# EAGLE library part 6180XX29321_61803729321 (library Wurth_Connectors_WR-DSUB)
WR-DSUB Female PCB Connector w. Hex Screw Kind Properties Quality Class：3 as per CECC 75 301-802 Gender:Female Type:Straight Insulator Material:PBT Insulator Flammability Rating:UL94 V-0 Color:White Contact Material:Copper Alloy Contact Plating:Gold Contact Type:Stamped Shielding Material:Steel Shielding Plating:Tin General Information Operating Temperature:-55 up to +105 °C Compliance：RoHS Electrical Properties IR 1：3 A Working Voltage:125 V (AC) Withstanding Voltage:1000 V (AC) Contact Resistance:30 mΩ <https://www.we-online.com/catalog/media/o33090v209%20Family_WR-DSUB_6180xx29321.jpg> Details see: https://www.we-online.com/catalog/en/DSUB_FEMALE_PCB_CONNECTOR_W_HEX_SCREW_6180XX29321/ Updated by Yingchun, Shan 2020-01-13 2020 (C) Würth Elektronik
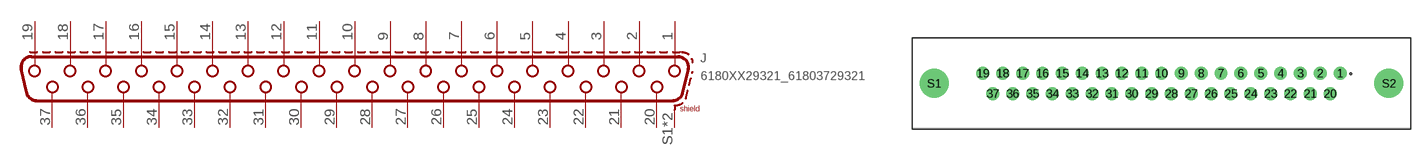
[diagram p42: symbol with the pads of 61803729321; footprint 61803729321]

Designator prefix J

## 6180XX29321_61803729321 (DATASHEET-URL: https://www.we-online.com/redexpert/spec/61803729321?ae; GENDER: Female; PART-NUMBER: 61803729321; PINS: 37; TYPE: Straight; VALUE: 61803729321; WE-NUMBER: 61803729321; WORKING-VOLTAGE: 125 V(AC))  [61803729321]
1  1
2  2
3  3
4  4
5  5
6  6
7  7
8  8
9  9
10  10
11  11
12  12
13  13
14  14
15  15
16  16
17  17
18  18
19  19
20  20
21  21
22  22
23  23
24  24
25  25
26  26
27  27
28  28
29  29
30  30
31  31
32  32
33  33
34  34
35  35
36  36
37  37
S1  SHIELD
S2  SHIELD

## Footprint 61803729321 (pad centres in mm)
WR-DSUB Female PCB Connector w. Hex Screw, 37 Pins
drill 1.2: 1 24.93,1.42; 2 22.16,1.42; 3 19.39,1.42; 4 16.62,1.42; 5 13.85,1.42; 6 11.08,1.42; 7 8.31,1.42; 8 5.54,1.42; 9 2.77,1.42; 10 0,1.42; 11 -2.77,1.42; 12 -5.54,1.42; 13 -8.31,1.42; 14 -11.08,1.42; 15 -13.85,1.42; 16 -16.62,1.42; 17 -19.39,1.42; 18 -22.16,1.42; 19 -24.93,1.42; 20 23.545,-1.42; 21 20.775,-1.42; 22 18.005,-1.42; 23 15.235,-1.42; 24 12.465,-1.42; 25 9.695,-1.42; 26 6.925,-1.42; 27 4.155,-1.42; 28 1.385,-1.42; 29 -1.385,-1.42; 30 -4.155,-1.42; 31 -6.925,-1.42; 32 -9.695,-1.42; 33 -12.465,-1.42; 34 -15.235,-1.42; 35 -18.005,-1.42; 36 -20.775,-1.42; 37 -23.545,-1.42
drill 3.05: S1 -31.75,0; S2 31.75,0